# Altium schematic symbol library PLAN TRANS.Schlib: 1 symbol
Pins are listed as number, name and electrical type; pins without a type are passive.

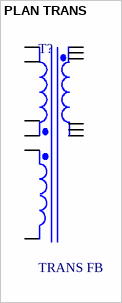
[diagram p0: symbol PLAN TRANS]

## PLAN TRANS
designator T?, comment TRANS FB
Three-winding Transformer (Ideal)
pins: 1 Pri+, 2 Pri+, 3 Pri-, 4 Pri-, 5 Sec2+, 6 Sec2-, 7 Sec1-, 8 Sec1+, 9 Sec1+, 10 Sec1+, 11 Sec1+, 12 Sec1+